# Altium schematic symbol library Connectors.SchLib: 25 symbols
Pins are listed as number, name and electrical type; pins without a type are passive.

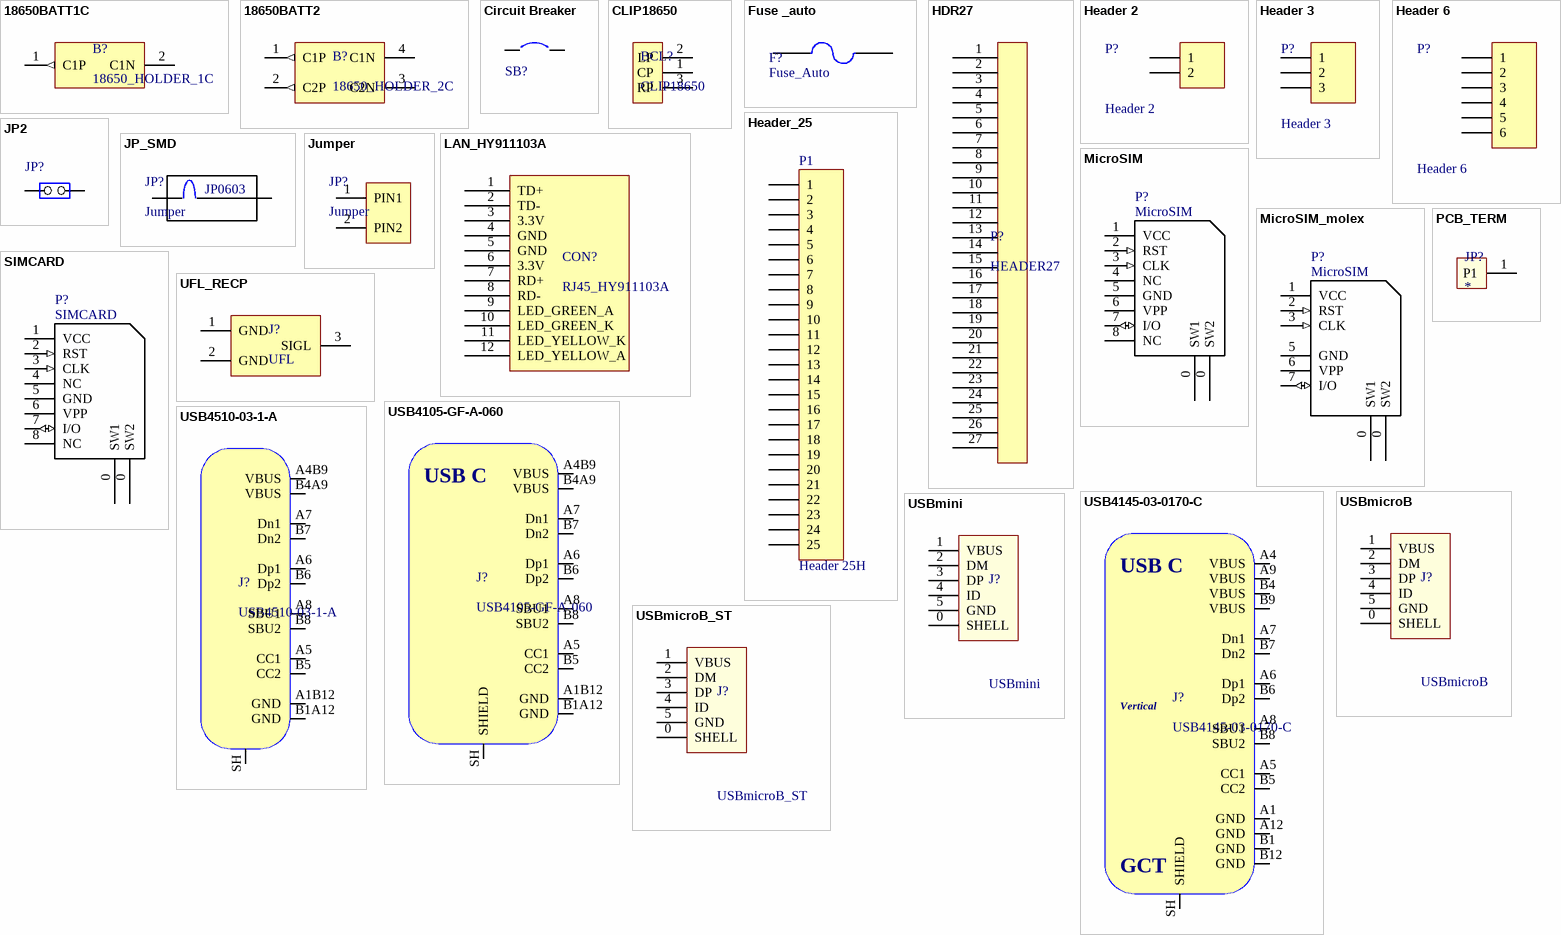
[diagram p0: symbols 18650BATT1C to USBmini]

## 18650BATT1C
designator B?, comment 18650_HOLDER_1C
18650 Battery 1 Cell Holder SMD
footprint 18650BAT1C_SMD (Battery 18650 Holder 1 Cell)
pins: 1 C1P (out), 2 C1N

## 18650BATT2
designator B?, comment 18650_HOLDER_2C
18650 Battery 2 Cell Holder SMD
footprint 18650BATT2 (18650 Battery Holder 2 Cell)
pins: 1 C1P (out), 2 C2P (out), 3 C2N, 4 C1N

## Circuit Breaker
designator SB?  (value not drawn)
Solder: NO; Published: 24-Mar-1999; Revision: July-2002: Re-released for DXP Platform.; Publisher: Altium Limited
footprint SPST-2 (Circuit Breaker; 2 Leads)
footprint JP2_SMD
pins: 1, 2

## CLIP18650
designator BCL?
clip 18650
footprint CLIP18650 (battery clip 18650)
pins: 1 CP, 2 LP, 3 RP

## Fuse _auto
designator F?, comment Fuse_Auto
Automive Fuse Holder 19mm x5 mm; Published: 8-Jun-2000; LatestRevisionDate: 17-Jul-2002; LatestRevisionNote: Re-released for DXP Platform.; PackageReference: PIN-W2/E2.8; Publisher: Altium Limited; PackageDescription: Thru-Hole; 2 Leads
footprint Keystone_3557-2 (Automotive Fuse Holder 19mmx5mm)
pins: 1 IN, 2 OUT

## HDR27
designator P?, comment HEADER27
footprint HDR27 (2.54mm pitch HEADER)
pins: 1, 2, 3, 4, 5, 6, 7, 8, 9, 10, 11, 12, 13, 14, 15, 16, 17, 18, 19, 20, 21, 22, 23, 24, 25, 26, 27

## Header 2
designator P?
Header, 2-Pin; LatestRevisionDate: 17-Jul-2002; LatestRevisionNote: Re-released for DXP Platform.; Publisher: Altium Limited
footprint B2B-XH-A (WAFER Connector 2 Pins,Pitch 2.50mm, Straight Type  Single Row)
pins: 1, 2

## Header 3
designator P?
Header, 3-Pin; LatestRevisionDate: 17-Jul-2002; LatestRevisionNote: Re-released for DXP Platform.; Publisher: Altium Limited
footprint B3B-XH-A (WAFER Connector 3 Pins,Pitch 2.50mm, Straight Type  Single Row)
pins: 1, 2, 3

## Header 6
designator P?
Header, 6-Pin; LatestRevisionDate: 17-Jul-2002; LatestRevisionNote: Re-released for DXP Platform.; Publisher: Altium Limited
footprint B6B-XH-A (WAFER Connector 6 Pins,Pitch 2.50mm, Straight Type  Single Row)
pins: 1, 2, 3, 4, 5, 6

## Header_25
designator P1, comment Header 25H
Header, 25-Pin; LatestRevisionDate: 17-Jul-2002; LatestRevisionNote: Re-released for DXP Platform.; Publisher: Altium Limited
footprint HDR1X25M (Connector; Header; 25 Position)
pins: 1, 2, 3, 4, 5, 6, 7, 8, 9, 10, 11, 12, 13, 14, 15, 16, 17, 18, 19, 20, 21, 22, 23, 24, 25

## JP2
designator JP?
footprint SIP2/2.54
pins: 1 COMMON, 2 NO

## JP_SMD
designator JP?, comment Jumper  (net tie, no BOM)
Jumper SMD 0603 size
footprint JP0603 (Jumper Body 1.6 x 0.8 mm (LxW typ))
pins: 1 P1, 2 P2
text: JP0603

## Jumper
designator JP?
Small Jumper for (M) pin header pitch 2.0mm
footprint JUMPER2.0p (mini jumper pitch 2.0mm)
pins: 1 PIN1, 2 PIN2

## LAN_HY911103A
designator CON?, comment RJ45_HY911103A
ConnectorRJ45 Magnetic with 2 LEDfor 10/100; Anunda_Code: N2311
footprint LAN_HY911103A
pins: 1 TD+  , 2 TD-, 3 3.3V, 4 GND, 5 GND, 6 3.3V, 7 RD+, 8 RD-, 9 LED_GREEN_A, 10 LED_GREEN_K, 11 LED_YELLOW_K, 12 LED_YELLOW_A

## MicroSIM
designator P?
Connector for Micro SIM card ,8 pin, 1.27 mm pitch PCB SMT; MFG: AUK CONNECTOR; MFG P/N: SCPW06L20020-R5H-HCN; Anunda_Code: N1986; Price: 13.26; Supplier: AUK
footprint WE-693022010811 (8-pos Connector Micro SIM SMD, R/A ,Hinged Lid,Wurth Electronics)
pins: 0 SW1 (power), 0 SW2 (power), 1 VCC (power), 2 RST (in), 3 CLK (in), 4 NC, 5 GND (power), 6 VPP (power), 7 I/O (io), 8 NC

## MicroSIM_molex
designator P?, comment MicroSIM
Connector Micro SIM Card Hinged Lid 6-Contact 1.6mm Height; MFG: AUK CONNECTOR; MFG P/N: SCPW06L20020-R5H-HCN; Anunda_Code: D0920; Price: 13.26; Supplier: AUK
footprint MOLEX-788000001
pins: 0 SW1 (power), 0 SW2 (power), 1 VCC (power), 2 RST (in), 3 CLK (in), 5 GND (power), 6 VPP (power), 7 I/O (io)

## PCB_TERM
designator JP?
footprint PCB_TERM_TAB635
pins: 1 P1

## SIMCARD
designator P?
Connector for Multipole SIM card ,6 pin, 1.27 mm pitch PCB SMT; MFG: AUK CONNECTOR; MFG P/N: SCPW06L20020-R5H-HCN; Anunda_Code: N1025; Price: 13.26; Supplier: AUK
footprint MOLEX-0475532001 (Push-push SIM Socket)
pins: 0 SW1 (power), 0 SW2 (power), 1 VCC (power), 2 RST (in), 3 CLK (in), 4 NC, 5 GND (power), 6 VPP (power), 7 I/O (io), 8 NC

## UFL_RECP
designator J?, comment UFL
Connector UMCC IPEX MHF1 Receptacle (M) SMD 50 Ohm; Anunda_Code: D0696
footprint UFL_recep_SMT
pins: 1 GND, 2 GND, 3 SIGL

## USB4105-GF-A-060
designator J?
USB Connector Type C SMT 12 Pin; Manufacturer: GCT; Manufacturer Part Number: USB4105-GF-A-060
footprint USB4105-GF-A-060
pins: A1B12 GND, A4B9 VBUS, A5 CC1, A6 Dp1, A7 Dn1, A8 SBU1, B1A12 GND, B4A9 VBUS, B5 CC2, B6 Dp2, B7 Dn2, B8 SBU2, SH SHIELD
text: USB C

## USB4145-03-0170-C
designator J?
USB Connector Type C SMT 16 Pin Vertical; Manufacturer: GCT; Manufacturer Part Number: USB4145-03-0170-C
footprint USB4145-03-0170-C
pins: A1 GND, A4 VBUS, A5 CC1, A6 Dp1, A7 Dn1, A8 SBU1, A9 VBUS, A12 GND, B1 GND, B4 VBUS, B5 CC2, B6 Dp2, B7 Dn2, B8 SBU2, B9 VBUS, B12 GND, SH SHIELD
text: USB C; Vertical

## USB4510-03-1-A
designator J?
USB Connector Type C SMT Mid-Mount 16 Pin; Manufacturer: GCT; Manufacturer Part Number: USB4510-03-1-A
footprint USB4510-03-1-A
pins: A1B12 GND, A4B9 VBUS, A5 CC1, A6 Dp1, A7 Dn1, A8 SBU1, B1A12 GND, B4A9 VBUS, B5 CC2, B6 Dp2, B7 Dn2, B8 SBU2, SH SHIELD

## USBmicroB
designator J?
Micro USB 2.0 ReceptacleType B Connector 5 Position, R/A(Digikey:609-4618-1-ND); Anunda_Code: N1953
footprint microUSB_ mix_amPN
pins: 0 SHELL, 1 VBUS, 2 DM, 3 DP, 4 ID, 5 GND

## USBmicroB_ST
designator J?
Micro USB 2.0 ReceptacleType B Connector 5 Position, S/T(105133-0001); Anunda_Code: N2253
footprint microUSB_ mix_Standoff
pins: 0 SHELL, 1 VBUS, 2 DM, 3 DP, 4 ID, 5 GND

## USBmini
designator J?
USB mini type B 5 pins receptacle
footprint MiniUSBtype B
pins: 0 SHELL, 1 VBUS, 2 DM, 3 DP, 4 ID, 5 GND